# EAGLE library part CONN_5-2 (library pel_misc)
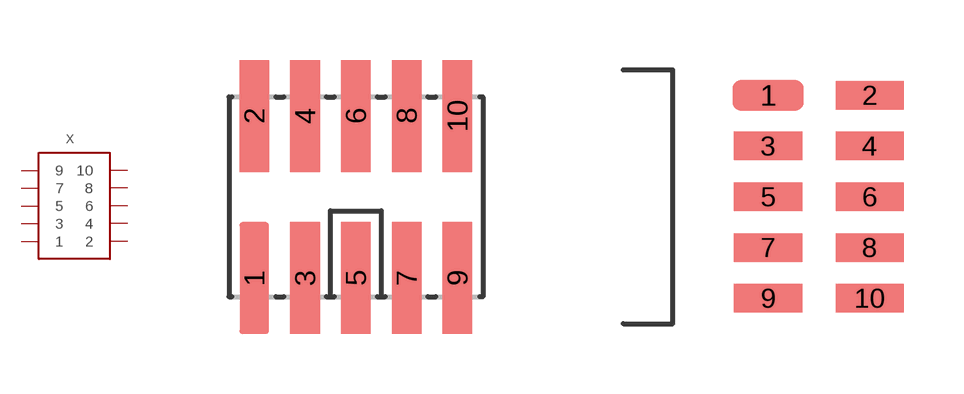
[diagram p0: symbol with the pads of FTSH-105-DV; footprints FTSH-105-DV, FTSH-105-DH]

Designator prefix X

## CONN_5-2-FTSH-V  [FTSH-105-DV]
1  1
2  2
3  3
4  4
5  5
6  6
7  7
8  8
9  9
10  10

## CONN_5-2-FTSH-H  [FTSH-105-DH]
Pads as for FTSH-105-DV

## CONN_5-2  [FTSH-105-D]
Pads as for FTSH-105-DV

## Footprint FTSH-105-DV (pad centres in mm)
smd 0.74 x 2.8: 1 -2.54,-2.03; 2 -2.54,2.03; 3 -1.27,-2.03; 4 -1.27,2.03; 5 0,-2.03; 6 0,2.03; 7 1.27,-2.03; 8 1.27,2.03; 9 2.54,-2.03; 10 2.54,2.03

## Footprint FTSH-105-DH (pad centres in mm)
smd 1.78 x 0.76: 1 -1.27,2.54
smd 1.702 x 0.711: 2 1.27,2.54; 3 -1.27,1.27; 4 1.27,1.27; 5 -1.27,0; 6 1.27,0; 7 -1.27,-1.27; 8 1.27,-1.27; 9 -1.27,-2.54; 10 1.27,-2.54

## Footprint FTSH-105-D (pad centres in mm)
drill 0.71 pad 1.016 octagon: 1 -2.54,-0.635; 2 -2.54,0.635; 3 -1.27,-0.635; 4 -1.27,0.635; 5 0,-0.635; 6 0,0.635; 7 1.27,-0.635; 8 1.27,0.635; 9 2.54,-0.635; 10 2.54,0.635